# Altium schematic symbol library SCH - DRIVER - GATE - TI LMG1210RVR.SchLib: 1 symbol
Pins are listed as number, name and electrical type; pins without a type are passive.

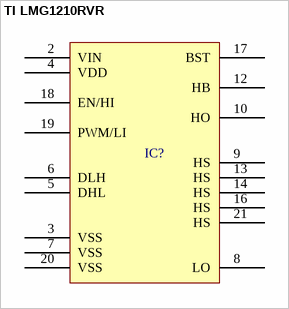
[diagram p0: symbol TI LMG1210RVR]

## TI LMG1210RVR
designator IC?  (value not drawn)
pins: 2 VIN, 3 VSS, 4 VDD, 5 DHL, 6 DLH, 7 VSS, 8 LO, 9 HS, 10 HO, 12 HB, 13 HS, 14 HS, 16 HS, 17 BST, 18 EN/HI, 19 PWM/LI, 20 VSS, 21 HS